# Altium integrated library 10067847-001RLF.IntLib: 1 symbol
Pins are listed as number, name and electrical type; pins without a type are passive.

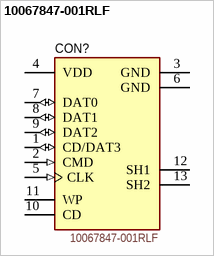
[diagram p0: symbol 10067847-001RLF]

## 10067847-001RLF
designator CON?
=Description; BUY_LINK: http://www.digikey.com/product-detail/en/10067847-001RLF/609-3956-1-ND/2283479; PDF: http://portal.fciconnect.com/Comergent//fci/drawing/10067847.pdf; PRICE: 2.83000; ID: 10067847-001RLF
footprint 10067847-001RLF
pins: 1 CD/DAT3 (io), 2 CMD (in), 3 GND (power), 4 VDD (power), 5 CLK (in), 6 GND (power), 7 DAT0 (io), 8 DAT1 (io), 9 DAT2 (io), 10 CD, 11 WP, 12 SH1, 13 SH2